# Altium footprint library Resistor.PcbLib: 5 footprints
Each footprint in its own frame and in the unit in brackets; x right, y up, seen from the top. Pads: shape width x height; smd on the part's side, far side on the other; paste and mask are expansions set on the pad; w line width, h text height; cw(c..) or ccw(c..) is an arc to the next point about the centre after c.
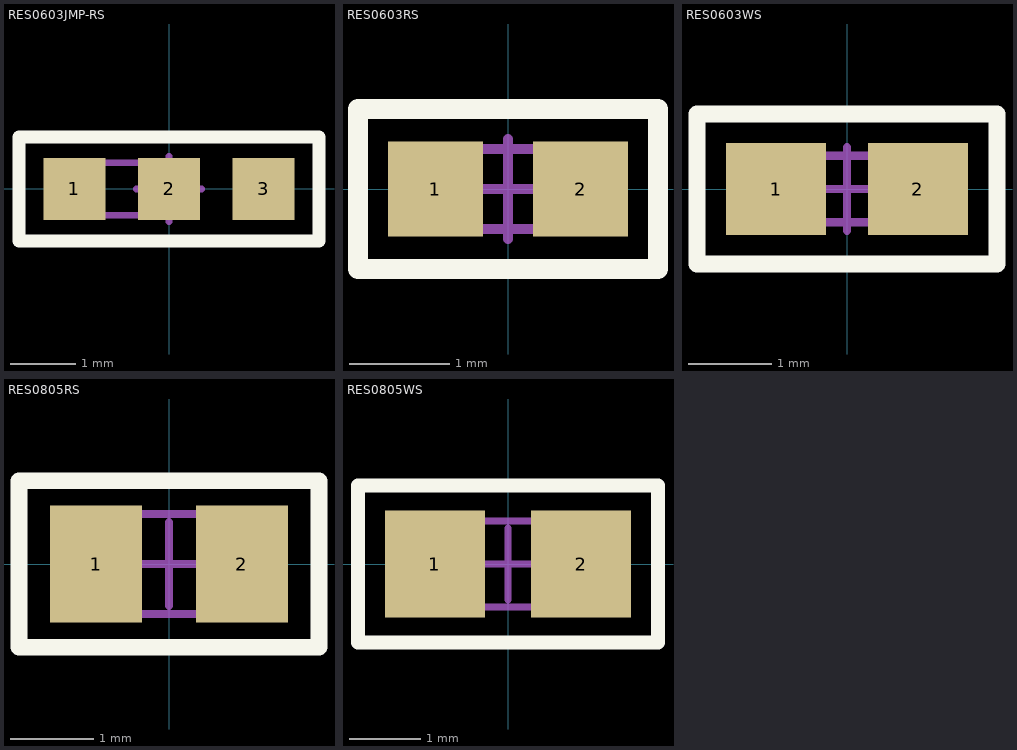
[diagram p0: the footprints below, top view; thin cyan lines are the x and y axes]

## RES0603JMP-RS [mm] "Resistor Jumper, 0603 Package, Reflow Soldering"
height 2.5
pads (3):
  rect 0.95x0.95 smd: 1(-1.45,0) 2(0,0) 3(1.45,0)
Top Overlay:
  lines w0.2: -2.3,-0.8 -2.3,0.8 2.3,0.8 2.3,-0.8 -2.3,-0.8
ReperDotTop:
  lines w0.1: -0.5,0 0.5,0 ; 0,-0.5 0,0.5
AssemblyOutlineTop:
  lines w0.1: -1.525,-0.4 0.075,-0.4 0.075,0.4 -1.525,0.4 -1.525,-0.4
  text "'.Designator'" at 0,0 h2.5
3D body "CircuitWorks-RESISTOR 0603.step": height 0.48, standoff -0.03, extent -1.525,-0.43 0.075,0.43

## RES0603RS [mm] "Resistor 0603 Reflow Soldering"
height 2.5
pads (2):
  rect 0.95x0.95 smd: 1(-0.725,0) 2(0.725,0)
Top Overlay:
  lines w0.2: -1.5,-0.8 -1.5,0.8 1.5,0.8 1.5,-0.8 -1.5,-0.8
ReperDotTop:
  lines w0.1: -0.5,0 0.5,0 ; 0,-0.5 0,0.5
AssemblyOutlineTop:
  lines w0.1: -0.8,-0.4 0.8,-0.4 0.8,0.4 -0.8,0.4 -0.8,-0.4
  text "'.Designator'" at 0,0 h2.5
3D body "CircuitWorks-RESISTOR 0603.step": height 0.48, standoff -0.03, extent -0.8,-0.43 0.8,0.43

## RES0603WS [mm] "Resistor 0603 Wave Soldering"
height 2.5
pads (2):
  rect 1.2x1.1 smd: 1(-0.85,0) 2(0.85,0)
Top Overlay:
  lines w0.2: -1.8,-0.9 -1.8,0.9 1.8,0.9 1.8,-0.9 -1.8,-0.9
ReperDotTop:
  lines w0.1: -0.5,0 0.5,0 ; 0,-0.5 0,0.5
AssemblyOutlineTop:
  lines w0.1: -0.8,-0.4 -0.8,0.4 0.8,0.4 0.8,-0.4 -0.8,-0.4
  text "'.Designator'" at 0,0 h2.5
3D body "CircuitWorks-RESISTOR 0603.step": height 0.48, standoff -0.03, extent -0.8,-0.43 0.8,0.43

## RES0805RS [mm] "Resistor 0805 Reflow Soldering"
height 2.5
pads (2):
  rect 1.1x1.4 smd: 1(-0.875,0) 2(0.875,0)
Top Overlay:
  lines w0.2: -1.8,-1 1.8,-1 1.8,1 -1.8,1 -1.8,-1
ReperDotTop:
  lines w0.1: -0.5,0 0.5,0 ; 0,-0.5 0,0.5
AssemblyOutlineTop:
  lines w0.1: -1,-0.6 -1,0.6 1,0.6 1,-0.6 -1,-0.6
  text "'.Designator'" at 0,0 h2.5
3D body "CircuitWorks-RESISTOR 0805.step": height 0.48, standoff 0.02, extent -1,-0.63 1,0.63

## RES0805WS [mm] "Resistor 0805 Wave Soldering"
height 2.5
pads (2):
  rect 1.4x1.5 smd: 1(-1.025,0) 2(1.025,0)
Top Overlay:
  lines w0.2: -2.1,-1.1 2.1,-1.1 2.1,1.1 -2.1,1.1 -2.1,-1.1
ReperDotTop:
  lines w0.1: -0.5,0 0.5,0 ; 0,-0.5 0,0.5
AssemblyOutlineTop:
  lines w0.1: -1,-0.6 -1,0.6 1,0.6 1,-0.6 -1,-0.6
  text "'.Designator'" at 0,0 h2.5
3D body "CircuitWorks-RESISTOR 0805.step": height 0.48, standoff 0.02, extent -1,-0.63 1,0.63